# EAGLE library part ATTINY1634 (library SMORSE_Chao)
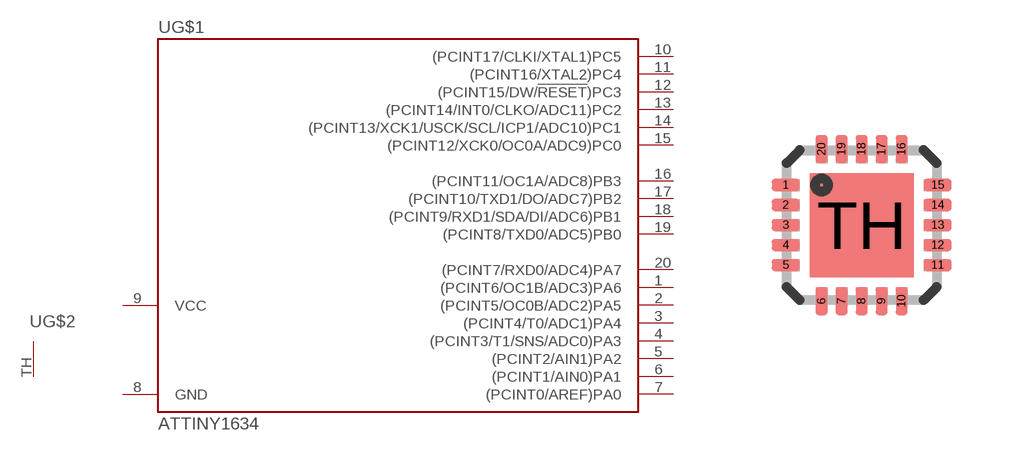
[diagram p6: symbol with the pads of QFN20/MLF20_4X4; footprint QFN20/MLF20_4X4]

Designator prefix -; gates G$1=ATTINY1634 G$2=GND

## ATTINY1634  [QFN20/MLF20_4X4]
1  G$1:(PCINT6/OC1B/ADC3)PA6
2  G$1:(PCINT5/OC0B/ADC2)PA5
3  G$1:(PCINT4/T0/ADC1)PA4
4  G$1:(PCINT3/T1/SNS/ADC0)PA3
5  G$1:(PCINT2/AIN1)PA2
6  G$1:(PCINT1/AIN0)PA1
7  G$1:(PCINT0/AREF)PA0
8  G$1:GND  pwr
9  G$1:VCC  pwr
10  G$1:(PCINT17/CLKI/XTAL1)PC5
11  G$1:(PCINT16/XTAL2)PC4
12  G$1:(PCINT15/DW/!RESET!)PC3
13  G$1:(PCINT14/INT0/CLKO/ADC11)PC2
14  G$1:(PCINT13/XCK1/USCK/SCL/ICP1/ADC10)PC1
15  G$1:(PCINT12/XCK0/OC0A/ADC9)PC0
16  G$1:(PCINT11/OC1A/ADC8)PB3
17  G$1:(PCINT10/TXD1/DO/ADC7)PB2
18  G$1:(PCINT9/RXD1/SDA/DI/ADC6)PB1
19  G$1:(PCINT8/TXD0/ADC5)PB0
20  G$1:(PCINT7/RXD0/ADC4)PA7
TH  G$2:GND  pwr

## Footprint QFN20/MLF20_4X4 (pad centres in mm)
smd 0.7 x 0.3: 1 -1.9,1; 2 -1.9,0.5; 3 -1.9,0; 4 -1.9,-0.5; 5 -1.9,-1; 11 1.9,-1; 12 1.9,-0.5; 13 1.9,0; 14 1.9,0.5; 15 1.9,1
smd 0.3 x 0.7: 6 -1,-1.9; 7 -0.5,-1.9; 8 0,-1.9; 9 0.5,-1.9; 10 1,-1.9; 16 1,1.9; 17 0.5,1.9; 18 0,1.9; 19 -0.5,1.9; 20 -1,1.9
smd 2.6 x 2.6: TH 0,0